# Altium schematic symbol library SEMI.SchLib: 64 symbols
Pins are listed as number, name and electrical type; pins without a type are passive.

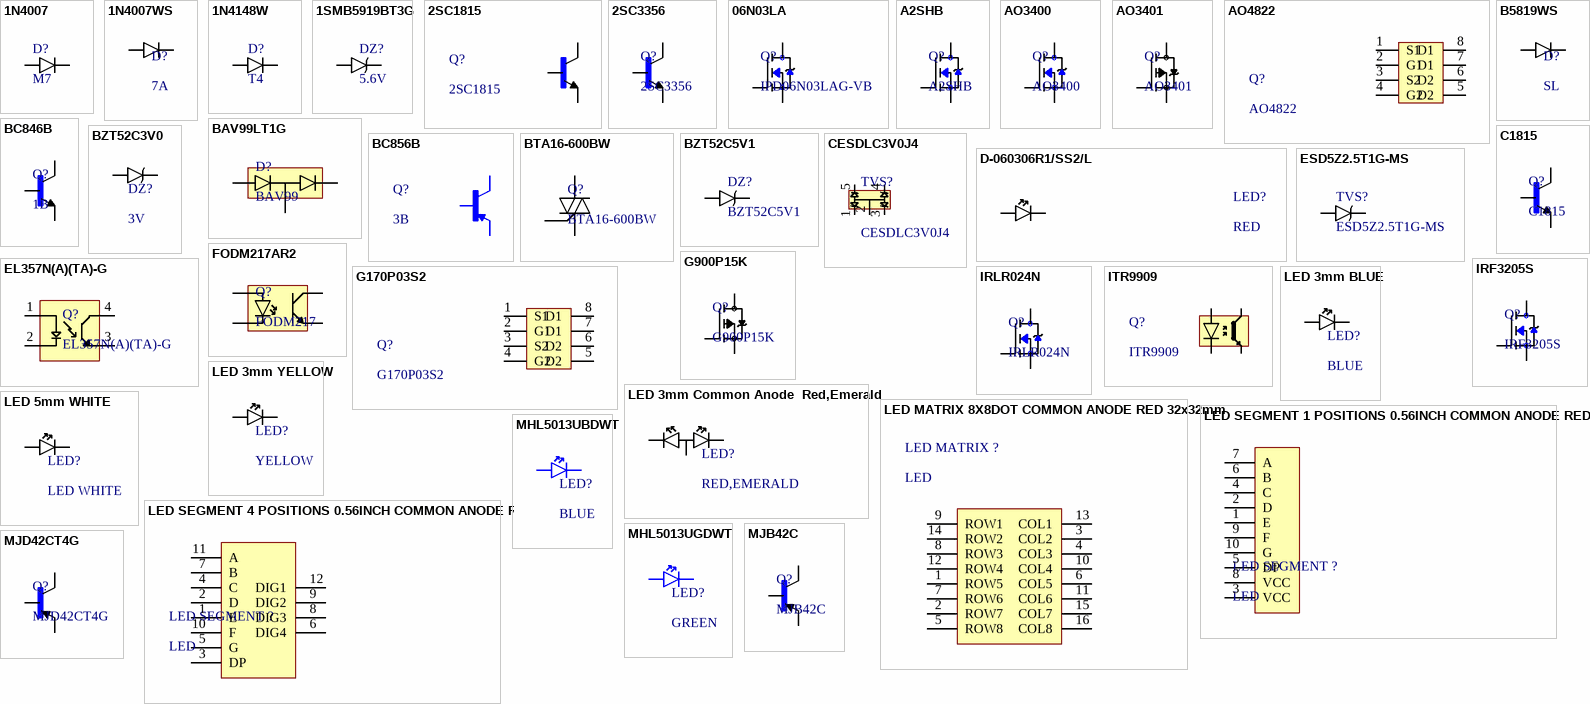
[diagram p0: symbols 1N4007 to MJD42CT4G]

## 1N4007
designator D?, comment M7
Independent Type 1A 1.1V@1A 1kV DO-214AC(SMA) Diodes - General Purpose ROHS; Manufacturer: MSKSEMI; Mfr.Part #: 1N4007; Package: DO-214AC(SMA)
footprint SMA(DO-214AC)
pins: 1 A, 2 K

## 1N4007WS
designator D?, comment 7A
Independent Type 1A 1.1V@1A 1kV SOD-323 Diodes - General Purpose ROHS; Manufacturer: MSKSEMI; Mfr.Part #: 1N4007WS; So_Chan_Dan: 2; So_Chan_Cam: 0; Package: SOD-323; Name: 1N4007WS
footprint SOD-323
pins: 1 A, 2 K

## 1N4148W
designator D?, comment T4
100V Single 1.25V@150mA 4ns 150mA SOD-123 Switching Diode ROHS; Manufacturer: HXY MOSFET; Mfr.Part #: 1N4148W; Name: 1N4148W (T4); So_Chan_Dan: 2; So_Chan_Cam: 0; Package: SOD-123
footprint SOD-123
footprint DO-35
pins: 1 A, 2 K

## 1SMB5919BT3G
designator DZ?, comment 5.6V
Independent Type 5.32V~5.88V 3W 5.6V SMB(DO-214AA) Zener Diodes ROHS; Manufacturer: FUXINSEMI; Mfr.Part #: 1SMB5919BT3G; Package: SMB(DO-214AA); LCSC Part #: C7422622
footprint SMB(DO-214AA)
pins: 1 A, 2 K

## 2SC1815
designator Q?
50V 400mW 70@2mA,6V 150mA NPN TO-92-2.54mm Bipolar (BJT) ROHS; Manufacturer: Jiangsu Changjing Electronics Technology Co., Ltd.; Mfr.Part #: 2SC1815-TA(RANGE:200-400); Name: S8050; So_Chan_Dan: 0; So_Chan_Cam: 3; Package: TO-92-2.54mm
footprint TO-92
pins: 1 E, 2 C, 3 B

## 2SC3356
designator Q?
12V 200mW 100mA SOT-23 Bipolar Transistors - BJT ROHS; Manufacturer: Diotec Semiconductor; So_Chan_Dan: 3; So_Chan_Cam: 0; Mfr.Part #: 2SC3356; Name: 2SC3356; Package: SOT-23
footprint SOT-23
pins: 1 B, 2 E, 3 C

## 06N03LA
designator Q?, comment IPD06N03LAG-VB
20V 145A 3mΩ@4.5V 1PCSNChannel TO-252 MOSFETs ROHS; MF: Infineon Technologies; MP: IRF3205; SnapEDA_Link: https://www.snapeda.com/parts/IRF3205/Infineon+Technologies/view-part/?ref=snap; Package: TO-220 Infineon; Value: *; Check_prices: https://www.snapeda.com/parts/IRF3205/Infineon+Technologies/view-part/?ref=eda
footprint TO-252
pins: 1 G, 2 D, 3 S

## A2SHB
designator Q?
SOT-23 MOSFETs ROHS; Manufacturer: JSMSEMI; Mfr.Part #: JSM2302A-A2SHB; So_Chan_Dan: 3; So_Chan_Cam: 0; Package: SOT-23; Name: A2SHB
footprint SOT-23
pins: 1 G, 2 D, 3 S

## AO3400
designator Q?
30V 5.8A 40mΩ@4.5V,5A 350mW 1.4V 1 N-channel SOT-23 MOSFETs ROHS; Manufacturer: TWGMC; So_Chan_Dan: 3; So_Chan_Cam: 0; Package: SOT-23; Mfr.Part #: AO3400; Name: AO3400
footprint SOT-23
pins: 1 G, 2 S, 3 D

## AO3401
designator Q?
30V 4.2A 65mΩ@10V,4.2A 350mW 1.3V@250uA 1 Piece P-Channel SOT-23 MOSFETs ROHS; Manufacturer: TWGMC; So_Chan_Dan: 3; So_Chan_Cam: 0; Package: SOT-23; Mfr.Part #: AO3401; Name: AO3401
footprint SOT-23
pins: 1 G, 2 S, 3 D

## AO4822
designator Q?
30V 8A 24mΩ@4.5V,8A 1.7W 1.9V 2 N-Channel SOP-8 MOSFETs ROHS; Manufacturer: JSMSEMI; Mfr.Part #: AO4822; LCSC Part #: C5183841; Package: SOP-8
footprint SOIC-8
pins: 1 S1, 2 G1, 3 S2, 4 G2, 5 D2, 6 D2, 7 D1, 8 D1

## B5819WS
designator D?, comment SL
40V Independent Type 550mV@1A 1A SOD-323 Schottky Diodes ROHS; Manufacturer: GOODWORK; Mfr.Part #: B5819WS; Package: SOD-323; LCSC Part #: C6067464
footprint SOD-323
pins: 1 A, 2 K

## BAV99LT1G
designator D?, comment BAV99
100V 1 pair in series 1.25V@150mA 6ns 215mA SOT-23 Switching Diodes ROHS; Manufacturer: onsemi; Mfr.Part #: BAV99LT1G; So_Chan_Dan: 2; So_Chan_Cam: 0; Package: SOT-23; Name: BAV99LT1G
footprint SOT-23
pins: 1 A, 2 C, 3 A/C

## BC846B
designator Q?, comment 1B
65V 200mW 200@2mA,5V NPN SOT-23-3 Bipolar (BJT) ROHS; Manufacturer: UMW(Youtai Semiconductor Co., Ltd.); Name: BC846B; Mfr.Part #: BC846B; Package: SOT-23-3
footprint SOT-23
pins: 1 B, 2 E, 3 C

## BC856B
designator Q?, comment 3B
65V 200mW 220@2mA,5V 100mA PNP SOT-23-3 Bipolar (BJT) ROHS; Manufacturer: UMW(Youtai Semiconductor Co., Ltd.); Mfr.Part #: BC856B; LCSC Part #: C545565; Package: SOT-23-3
footprint SOT-23
pins: 1 B, 2 E, 3 C

## BTA16-600BW
designator Q?
50mA 50mA 600V TO-220A Thyristors (SCR)/Modules ROHS; Manufacturer: KTP; So_Chan_Dan: 2; So_Chan_Cam: 0; Mfr.Part #: BTA16-600BW; Package: TO-220A; Name: BTA16-600BW
footprint TO-220
pins: 1 T1, 2 T2, 3 G

## BZT52C3V0
designator DZ?, comment 3V
Independent Type 2.8V~3.2V 500mW 3V SOD-123 Zener Diodes ROHS; Manufacturer: GOODWORK; Mfr.Part #: BZT52C3V0; Package: SOD-123
footprint SOD-123
pins: 1 A, 2 K

## BZT52C5V1
designator DZ?
Independent Type 4.8V~5.4V 500mW 5.1V SOD-123 Zener Diodes ROHS; Manufacturer: MDD(Microdiode Semiconductor); So_Chan_Dan: 2; So_Chan_Cam: 0; Mfr.Part #: BZT52C5V1; Package: SOD-123; Name: BZT52C5V1
footprint SOD-123
pins: 1 A, 2 K

## C1815
designator Q?
50V 200mW 400@2mA,6V 150mA NPN SOT-23 Bipolar Transistors - BJT ROHS; MF: Diotec Semiconductor; MP: BC847C; Price: None; SnapEDA_Link: https://www.snapeda.com/parts/BC847C/Diotec/view-part/?ref=snap; Purchase-URL: https://pricing.snapeda.com/search/part/BC847C/?ref=eda; Availability: In Stock; Package: SOT-23-3 Diotec; Check_prices: https://www.snapeda.com/parts/BC847C/Diotec/view-part/?ref=eda; Value: *
footprint SOT-23
pins: 1 B, 2 E, 3 C

## CESDLC3V0J4
designator TVS?
2.5A 8V 5.3V Unidirectional 3V SOT-353 ESD and Surge Protection (TVS/ESD) ROHS; Manufacturer: Jiangsu Changjing Electronics Technology Co., Ltd.; So_Chan_Dan: 5; So_Chan_Cam: 0; Mfr.Part #: CESDLC3V0J4; Package: SOD-323; Name: CESDLC3V0J4
footprint SOT-353
pins: 1 C, 2 A, 3 C, 4 C, 5 C

## D-060306R1/SS2/L
designator LED?, comment RED
Red 0603 LED Indication - Discrete ROHS; Manufacturer: ARKLED(Wuxi ARK Tech Elec); Mfr.Part #: D-060306R1/SS2/L; Package: 0603; LCSC Part #: C118330
footprint LED-0603
pins: 1 A, 2 K

## EL357N(A)(TA)-G
designator Q?
80V 3.75kV 50mA 100mV@1mA,20mA 1 6V 1.2V DC SOP-4-2.54mm Optocouplers - Phototransistor Output ROH; MP: EL357N-G; MF: Everlight Electronics; Price: None; SnapEDA_Link: https://www.snapeda.com/parts/EL357N-G/Everlight+Electronics+Co+Ltd/view-part/?ref=snap; Package: SOP-4 Everlight; Check_prices: https://www.snapeda.com/parts/EL357N-G/Everlight+Electronics+Co+Ltd/view-part/?ref=eda; Value: *; Availability: In Stock; Purchase-URL: https://pricing.snapeda.com/search/part/EL357N-G/?ref=eda
footprint SOP-4-2.54mm
pins: 1 A, 2 C, 3 ET, 4 CT

## ESD5Z2.5T1G-MS
designator TVS?
11A 10.9V 200W 4V 2.5V SOD-523 ESD and Surge Protection (TVS/ESD) ROHS; Manufacturer: MSKSEMI; So_Chan_Dan: 2; So_Chan_Cam: 0; Mfr.Part #: ESD5Z2.5T1G-MS; Package: SOD-523; Name: ESD5Z2.5T1G-MS
footprint SOD-523
pins: 1 A, 2 K

## FODM217AR2
designator Q?, comment FODM217
Optoisolator Transistor Output 3750Vrms 1 Channel 4-SOP; Manufacturer: onsemi; Mfr.Part #: FODM217AR2; DigiKey Part Number: FODM217AR2OSTR-ND - Tape & Reel (TR); Package: SOIC-4
footprint SMD-4P-1
pins: 1 A, 2 K, 3 E, 4 C

## G170P03S2
designator Q?
30V 9A 25mΩ@5A,4.5V 1.4W 2.5V@250uA 2 P-Channel SOP-8 MOSFETs ROHS; Manufacturer: GOFORD; So_Chan_Dan: 6; So_Chan_Cam: 0; Mfr.Part #: G170P03S2; Name: G170P03S2; Package: SOP-8
footprint SOIC-8
pins: 1 S1, 2 G1, 3 S2, 4 G2, 5 D2, 6 D2, 7 D1, 8 D1

## G900P15K
designator Q?
P-Channel 150 V 35A (Tc) 198W (Tc) Surface Mount TO-252; Manufacturer: Goford Semiconductor; Package: TO-252; Mfr.Part #: G900P15K; DigiKey Part Number: 3141-G900P15KTR-ND
footprint TO-252
pins: 1 G, 2 D, 3 S

## IRF3205S
designator Q?
TO-263 MOSFETs ROHS; Manufacturer: JSMSEMI; So_Chan_Dan: 3; So_Chan_Cam: 0; Mfr.Part #: IRF3205S; Package: TO-263; Name: IRF3205S
footprint TO-263
pins: 1 G, 2 D, 3 S

## IRLR024N
designator Q?
55V 17A 45W 65mΩ@10V,10A 2V@250uA 1PCSNChannel TO-252-2(DPAK) MOSFETs ROHS; Manufacturer: Infineon Technologies; Mfr.Part #: IRLR024NTRPBF; So_Chan_Dan: 3; So_Chan_Cam: 0; Package: TO-252-2(DPAK); Name: IRLR024N
footprint TO-252
pins: 1 G, 2 D, 3 S

## ITR9909
designator Q?
Reflective Optical Interrupters ROHS; Manufacturer: XINGLIGHT; Mfr.Part #: XL-ITR9909; So_Chan_Dan: 0; So_Chan_Cam: 4; Name: ITR9909; Package: Plugin
footprint ITR9909
pins: 1 K, 2 A, 3 E, 4 C

## LED 3mm BLUE
designator LED?, comment BLUE
20mA Blue Lens -20℃~+75℃ 460nm~465nm Blue 30° 3mm round bulb 90mW Plugin,D=3mm LED Indication - Discrete ROHS; Manufacturer: TUOZHAN; Mfr.Part #: TZ-L2-03YYBB2BCJ30-001; Name: LED 3mm BLUE; So_Chan_Dan: 0; So_Chan_Cam: 2; Package: Plugin,D=3mm
footprint LED-3MM-BLUE
pins: 1 A, 2 K

## LED 3mm Common Anode  Red,Emerald
designator LED?, comment RED,EMERALD
20mA -40℃~+80℃ Common Anode Red,Emerald 30° 3mm round bulb Plugin,D=3mm LED Indication - Discrete ROHS; Manufacturer: TUOZHAN; Mfr.Part #: TZ-LAMP03RG4HD-A; Name: LED 3mm Common Anode  Red,Emerald; So_Chan_Dan: 0; So_Chan_Cam: 3; Package: Plugin,D=3mm
footprint LED-3MM-A
pins: 1 R, 2 A, 3 G

## LED 3mm YELLOW
designator LED?, comment YELLOW
20mA Yellow lens -20℃~+75℃ 590nm~595nm Yellow 30° 3mm round bulb 60mW Plugin,D=3mm LED Indication - Discrete ROHS; Manufacturer: TUOZHAN; Mfr.Part #: TZ-L2-03YYBY2YDJ30-001; Name: LED 3mm YELLOW; So_Chan_Dan: 0; So_Chan_Cam: 2; Package: Plugin,D=3mm
footprint LED-3MM-YELLOW
pins: 1 A, 2 K

## LED 5mm WHITE
designator LED?, comment LED WHITE
20mA Colorless transparent lens -40℃~+85℃ White 15° 5mm round lamp head 100mW Plugin,D=5mm LED Indication - Discrete ROHS; Manufacturer: Everlight Elec; Mfr.Part #: 333-2UTC/S400-A6; Name: LED 5mm WHITE; So_Chan_Dan: 0; So_Chan_Cam: 2; Package: Plugin,D=5mm
footprint LED-5MM-WHITE
pins: 1 A, 2 K

## LED MATRIX 8X8DOT COMMON ANODE RED 32x32mm
designator LED MATRIX ?, comment LED
Common Anode 8x8 Red Plugin LED Dot Matrix and Cluster ROHS; Manufacturer: SUNLIGHT; Mfr.Part #: SLD1388DRA1GD; Name: LED MATRIX 8X8DOT COMMON ANODE RED 32x32mm; So_Chan_Dan: 0; So_Chan_Cam: 16; Package: Plugin
footprint LED MATRIX 8X8DOT 32X32MM
pins: 1 ROW5, 2 ROW7, 3 COL2, 4 COL3, 5 ROW8, 6 COL5, 7 ROW6, 8 ROW3, 9 ROW1, 10 COL4, 11 COL6, 12 ROW4, 13 COL1, 14 ROW2, 15 COL7, 16 COL8

## LED SEGMENT 1 POSITIONS 0.56INCH COMMON ANODE RED
designator LED SEGMENT ?, comment LED
Red 1 Digit Common Anode 0.56 Plugin LED Segment Displays ROHS; Manufacturer: Shenzhen Zhihao Elec; Mfr.Part #: FJ5161BH; Name: LED SEGMENT 1 POSITIONS 0.56INCH COMMON ANODE RED; So_Chan_Dan: 0; So_Chan_Cam: 10; Package: Plugin
footprint LED SEGMENT 1POSITIONS 0.56INCH
pins: 1 E, 2 D, 3 VCC, 4 C, 5 DP, 6 B, 7 A, 8 VCC, 9 F, 10 G

## LED SEGMENT 4 POSITIONS 0.56INCH COMMON ANODE RED
designator LED SEGMENT ?, comment LED
Red 4 Positions Common Anode 0.56 Plugin LED Segment Displays ROHS; Manufacturer: Shenzhen Zhihao Elec; Mfr.Part #: FJ5461BH; Name: LED SEGMENT 4 POSITIONS 0.56INCH RED; So_Chan_Dan: 0; So_Chan_Cam: 12; Package: Plugin
footprint LED SEGMENT 4 POSITIONS 0.56INCH
pins: 1 E, 2 D, 3 DP, 4 C, 5 G, 6 DIG4, 7 B, 8 DIG3, 9 DIG2, 10 F, 11 A, 12 DIG1

## MHL5013UBDWT
designator LED?, comment BLUE
20mA Colorless Transparent Lens 468nm -25℃~+85℃ Blue 30° 5mm round lamp head 120mW Plugin,D=5mm LED Indication - Discrete ROHS; Manufacturer: MEIHUA; Mfr.Part #: MHL5013UBDWT; LCSC Part #: C559114; Package: Through Hole,D=5mm
footprint LED-5MM-BLUE
pins: 1 A, 2 K

## MHL5013UGDWT
designator LED?, comment GREEN
20mA 3.2V Emerald Green 5mm Round Lens 120mW Through Hole,D=5mm LED Indication - Discrete ROHS; Manufacturer: MEIHUA; Mfr.Part #: MHL5013UGDWT; LCSC Part #: C417346; Package: Through Hole,D=5mm
footprint LED-5MM-GREEN
pins: 1 A, 2 K

## MJB42C
designator Q?
100V 2W 15@3A,4V 6A PNP TO-263-2 Bipolar (BJT) ROHS; Manufacturer: onsemi; Mfr.Part #: MJB42CT4G; So_Chan_Dan: 3; So_Chan_Cam: 0; Name: MJB42C; Package: TO-263-2
footprint TO-263
pins: 1 B, 2 C, 3 E

## MJD42CT4G
designator Q?
100V 6A PNP TO-252 Bipolar (BJT) ROHS; Manufacturer: MSKSEMI; So_Chan_Dan: 3; So_Chan_Cam: 0; Mfr.Part #: MJD42CT4G; Name: MJD42CT4G; Package: TO-252
footprint TO-252
pins: 1 B, 2 C, 3 E

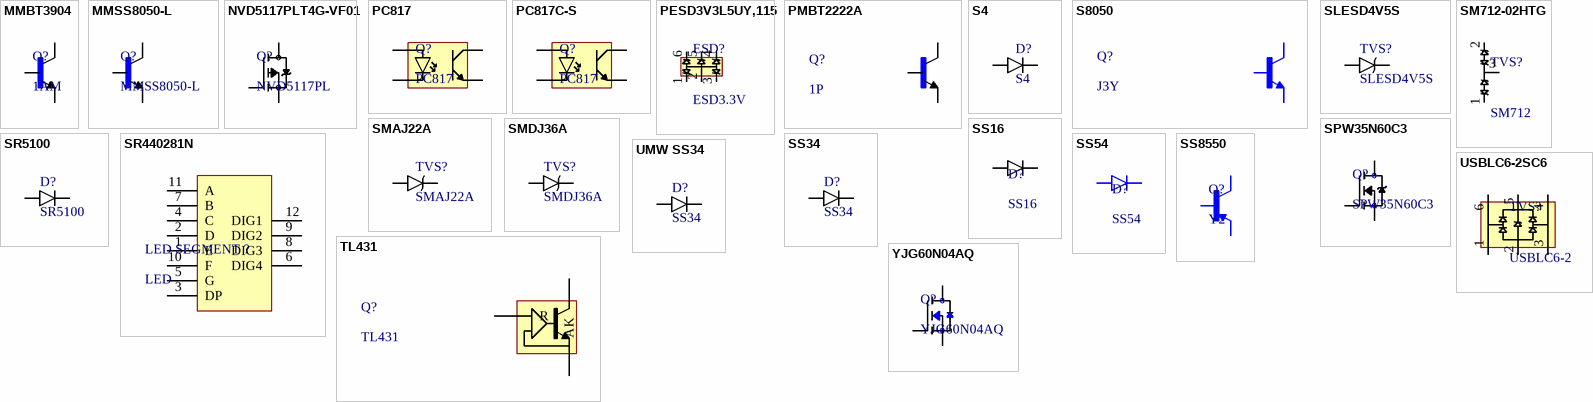
[diagram p1: symbols MMBT3904 to YJG60N04AQ]

## MMBT3904
designator Q?, comment 1AM
40V 200mW 100@10mA,1V 200mA NPN SOT-23 Bipolar Transistors - BJT ROHS; Manufacturer: HXY MOSFET MMBT3904; Mfr.Part #: MMBT3904; So_Chan_Dan: 3; So_Chan_Cam: 0; Name: MMBT3904; Package: SOT-23
footprint SOT-23
pins: 1 B, 2 E, 3 C

## MMSS8050-L
designator Q?
25V 625mW 120@100mA,1V 1.5A NPN SOT-23 Bipolar (BJT) ROHS; Manufacturer: MCC(Micro Commercial Components); Mfr.Part #: MMSS8050-L-TP; So_Chan_Dan: 3; So_Chan_Cam: 0; Name: MMSS8050-L; Package: SOT-23
footprint SOT-23
pins: 1 B, 2 E, 3 C

## NVD5117PLT4G-VF01
designator Q?, comment NVD5117PL
60V 61A 16mΩ@10V,61A 118W 1.5V 1 piece P-channel DPAK MOSFETs ROHS; Manufacturer: onsemi; Mfr.Part #: NVD5117PLT4G-VF01; Package: DPAK; LCSC Part #: C604532
footprint TO-252
pins: 1 G, 2 D, 3 S

## PC817
designator Q?
5kV 50mA 100mV@1mA,20mA 1 6V 1.2V DC SMD-4P Transistor Output Optocoupler ROHS; Manufacturer: GOODWORK; Mfr.Part #: PC817C; Name: PC817; Package: SMD-4P
footprint SMD-4P-1
pins: 1 A, 2 K, 3 E, 4 C

## PC817C-S
designator Q?, comment PC817
35V 5kV 50mA 200mV@20mA,1mA 1 6V 1.2V SOP-4-2.54mm Transistor, Photovoltaic Output Optoisolators ROHS; Manufacturer: UMW(Youtai Semiconductor Co., Ltd.); Mfr.Part #: PC817C-S; Package: SMD-4P
footprint SMD-4P-1
pins: 1 A, 2 K, 3 E, 4 C

## PESD3V3L5UY,115
designator ESD?, comment ESD3.3V
12V 25W 5.3V 3.3V SOT-363 ESD and Surge Protection (TVS/ESD) ROHS; Manufacturer: Nexperia; Mfr.Part #: PESD3V3L5UY,115; So_Chan_Dan: 6; So_Chan_Cam: 0; Package: SOT-363; Name: PESD3V3L5UY,115
footprint SOT-363
pins: 1 C, 2 A, 3 C, 4 C, 5 C, 6 C

## PMBT2222A
designator Q?, comment 1P
40V 300 600mA NPN SOT-23 Bipolar (BJT) ROHS; Manufacturer: PAKER; Mfr.Part #: PMBT2222A; So_Chan_Dan: 3; So_Chan_Cam: 0; Name: PMBT2222A; Package: SOT-23
footprint SOT-23
pins: 1 B, 2 E, 3 C

## S4
designator D?
40V Single 350mA 600mV@200mA SOD-123 Schottky Barrier Diodes (SBD) ROHS; Manufacturer: HXY MOSFET; Mfr.Part #: 1N5819W; So_Chan_Dan: 2; So_Chan_Cam: 0; Package: SOD-123; Name: 1N5819W
footprint SOD-123
pins: 1 A, 2 K

## S8050
designator Q?, comment J3Y
25V 300mW 350@50mA,1V 300mA NPN SOT-23 Bipolar (BJT) ROHS; Manufacturer: JSMSEMI; Mfr.Part #: S8050-J3Y; LCSC Part #: C18221467; Package: SOT-23
footprint SOT-23
pins: 1 B, 2 E, 3 C

## SLESD4V5S
designator TVS?
1.26kW 5V Unidirectional 4.5V SOD-323 ESD and Surge Protection (TVS/ESD) ROHS; Manufacturer: Slkor(SLKORMICRO Elec.); So_Chan_Dan: 2; So_Chan_Cam: 0; Mfr.Part #: SLESD4V5S; Package: SOD-323; Name: SLESD4V5S
footprint SOD-323
pins: 1 A, 2 K

## SM712-02HTG
designator TVS?, comment SM712
19A@8/20us 600W@8/20us Bidirectional SOT-23 ESD and Surge Protection (TVS/ESD) ROHS; Manufacturer: Littelfuse; Mfr.Part #: SM712-02HTG; Package: SOT-23; LCSC Part #: C172881
footprint SOT-23
pins: 1 C, 2, 3 A

## SMAJ22A
designator TVS?
11.3A 35.5V 400W 24.4V Unidirectional 22V SMA ESD and Surge Protection (TVS/ESD) ROHS; Manufacturer: PAKER; So_Chan_Dan: 2; So_Chan_Cam: 0; Mfr.Part #: SMAJ22A; Package: SMA; Name: SMAJ22A
footprint SMA(DO-214AC)
pins: 1 A, 2 K

## SMDJ36A
designator TVS?
51.6A 58.1V 3kW 40V Unidirectional 36V SMC ESD and Surge Protection (TVS/ESD) ROHS; Manufacturer: SETsafe | SETfuse; So_Chan_Dan: 2; So_Chan_Cam: 0; Mfr.Part #: SMDJ36A; Package: SMC; Name: SMDJ36A
footprint SMC
pins: 1 A, 2 K

## SPW35N60C3
designator Q?
TO-247AC-3 MOSFETs ROHS; Manufacturer: Infineon Technologies; So_Chan_Dan: 0; So_Chan_Cam: 3; Package: TO-247AC-3; Mfr.Part #: SPW35N60C3; Name: SPW35N60C3
footprint TO-247-3
pins: 1 G, 2 D, 3 S

## SR5100
designator D?
100V 850mV@5A 5A DO-201AD Schottky Diodes ROHS; Manufacturer: MDD(Microdiode Semiconductor); So_Chan_Dan: 0; So_Chan_Cam: 2; Mfr.Part #: SR5100; Package: DO-201AD; Name: SR5100
footprint DO-201AD
pins: 1 A, 2 K

## SR440281N
designator LED SEGMENT ?, comment LED
Red 4Bit Common Cathode 0.28 Plugin LED Segment Displays ROHS; Manufacturer: ARKLED(Wuxi ARK Tech Elec); Mfr.Part #: SR440281N; Package: Plugin
footprint LED SEGMENT 4 POSITIONS 0.28INCH
footprint LED SEGMENT 4 POSITIONS 0.28INCH-1
pins: 1 E, 2 D, 3 DP, 4 C, 5 G, 6 DIG4, 7 B, 8 DIG3, 9 DIG2, 10 F, 11 A, 12 DIG1

## SS16
designator D?
60V 1A 700mV@1A SMA(DO-214AC) Schottky Diodes ROHS; Manufacturer: GOODWORK; So_Chan_Dan: 2; So_Chan_Cam: 0; Mfr.Part #: SS16; Package: SMA(DO-214AC); Name: SS16
footprint SMA(DO-214AC)
pins: 1 A, 2 K

## SS34
designator D?
40V Single 3A 550mV@3A SMA(DO-214AC) Schottky Barrier Diodes (SBD) ROHS; Manufacturer: GOODWORK; Mfr.Part #: SS34; Package: SMA(DO-214AC); LCSC Part #: SS34
footprint SMA(DO-214AC)
pins: 1 A, 2 K

## SS54
designator D?
40V Single 550mV@5A 5A SMA(DO-214AC) Schottky Barrier Diodes (SBD) ROHS; Manufacturer: GOODWORK; So_Chan_Dan: 2; So_Chan_Cam: 0; Mfr.Part #: SS54; Package: SMA(DO-214AC); Name: SS54
footprint SMA(DO-214AC)
pins: 1 A, 2 K

## SS8550
designator Q?, comment Y2
25V 300mW 200@100mA,1V 1.5A PNP SOT-23 Bipolar (BJT) ROHS; Manufacturer: Jiangsu Changjing Electronics Technology Co., Ltd.; Mfr.Part #: SS8550 Y2(RANGE:200-350); Name: MJB42C; So_Chan_Dan: 3; So_Chan_Cam: 0; Package: SOT-23
footprint SOT-23
pins: 1 B, 2 E, 3 C

## TL431
designator Q?
2.5V~36V 2.495V 100mA Programmable SOT-23 Voltage Reference ROHS; Manufacturer: UTC(Unisonic Tech); Mfr.Part #: TL431G-AE2-R; So_Chan_Dan: 3; So_Chan_Cam: 0; Name: TL431; Package: SOT-23
footprint SOT-23
pins: 1 R, 2 K, 3 A

## UMW SS34
designator D?, comment SS34
40V 500mV@3A 3A SMA(DO-214AC) Schottky Diodes ROHS; Manufacturer: UMW(Youtai Semiconductor Co., Ltd.); Mfr.Part #: SS34; Package: SMA(DO-214AC); LCSC Part #: C2758579
footprint SMA(DO-214AC)
pins: 1 A, 2 K

## USBLC6-2SC6
designator TVS?, comment USBLC6-2
SOT-23-6 ESD and Surge Protection (TVS/ESD) ROHS; Manufacturer: TWGMC; Mfr.Part #: USBLC6-2SC6; Package: SOT-23-6; LCSC Part #: C7519
footprint SOT23-6
pins: 1 IO1, 2 GND, 3 IO2, 4 IO2, 5 VBUS, 6 IO1

## YJG60N04AQ
designator Q?
40V 60A 50W 7mΩ@10V,20A 2.5V 1 N-channel PDFN5060-8L MOSFETs ROHS; Manufacturer: Yangzhou Yangjie Elec Tech; Package: PDFN5060-8L; Mfr.Part #: YJG60N04AQ; Name: YJG60N04AQ
footprint PDFN5060-8L-1.1MM
pins: 1 S, 2 S, 3 S, 4 G, 5_8